# Altium integrated library wemos_mini_d1.IntLib: 1 symbol
Pins are listed as number, name and electrical type; pins without a type are passive.

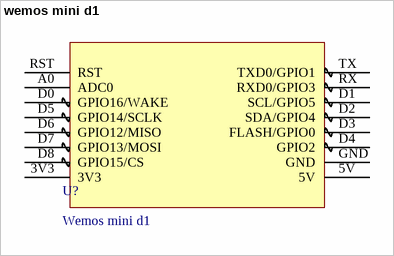
[diagram p0: symbol wemos mini d1]

## wemos mini d1
designator U?, comment Wemos mini d1
footprint PCBComponent_1
pins: 3V3, 5V, A0 ADC0, D0 GPIO16/WAKE, D1 SCL/GPIO5, D2 SDA/GPIO4, D3 FLASH/GPIO0, D4 GPIO2, D5 GPIO14/SCLK, D6 GPIO12/MISO, D7 GPIO13/MOSI, D8 GPIO15/CS, GND, RST, RX RXD0/GPIO3, TX TXD0/GPIO1